# Altium schematic symbol library MOSFET DUAL NN2.Schlib: 1 symbol
Pins are listed as number, name and electrical type; pins without a type are passive.

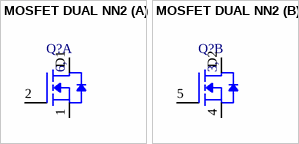
[diagram p0: symbol MOSFET DUAL NN2]

## MOSFET DUAL NN2
designator Q?
MOSFET, Dual
part A pins: 1 S, 2 G, 6 D, D1 D
part B pins: 3 D, 4 S, 5 G, D2 D
part A text: 6,
part B text: 3,